# Altium footprint library L1.PcbLib: 20 footprints (part 1 of 2)
Each footprint in its own frame and in the unit in brackets; x right, y up, seen from the top. Pads: shape width x height; smd on the part's side, far side on the other; paste and mask are expansions set on the pad; w line width, h text height; cw(c..) or ccw(c..) is an arc to the next point about the centre after c.
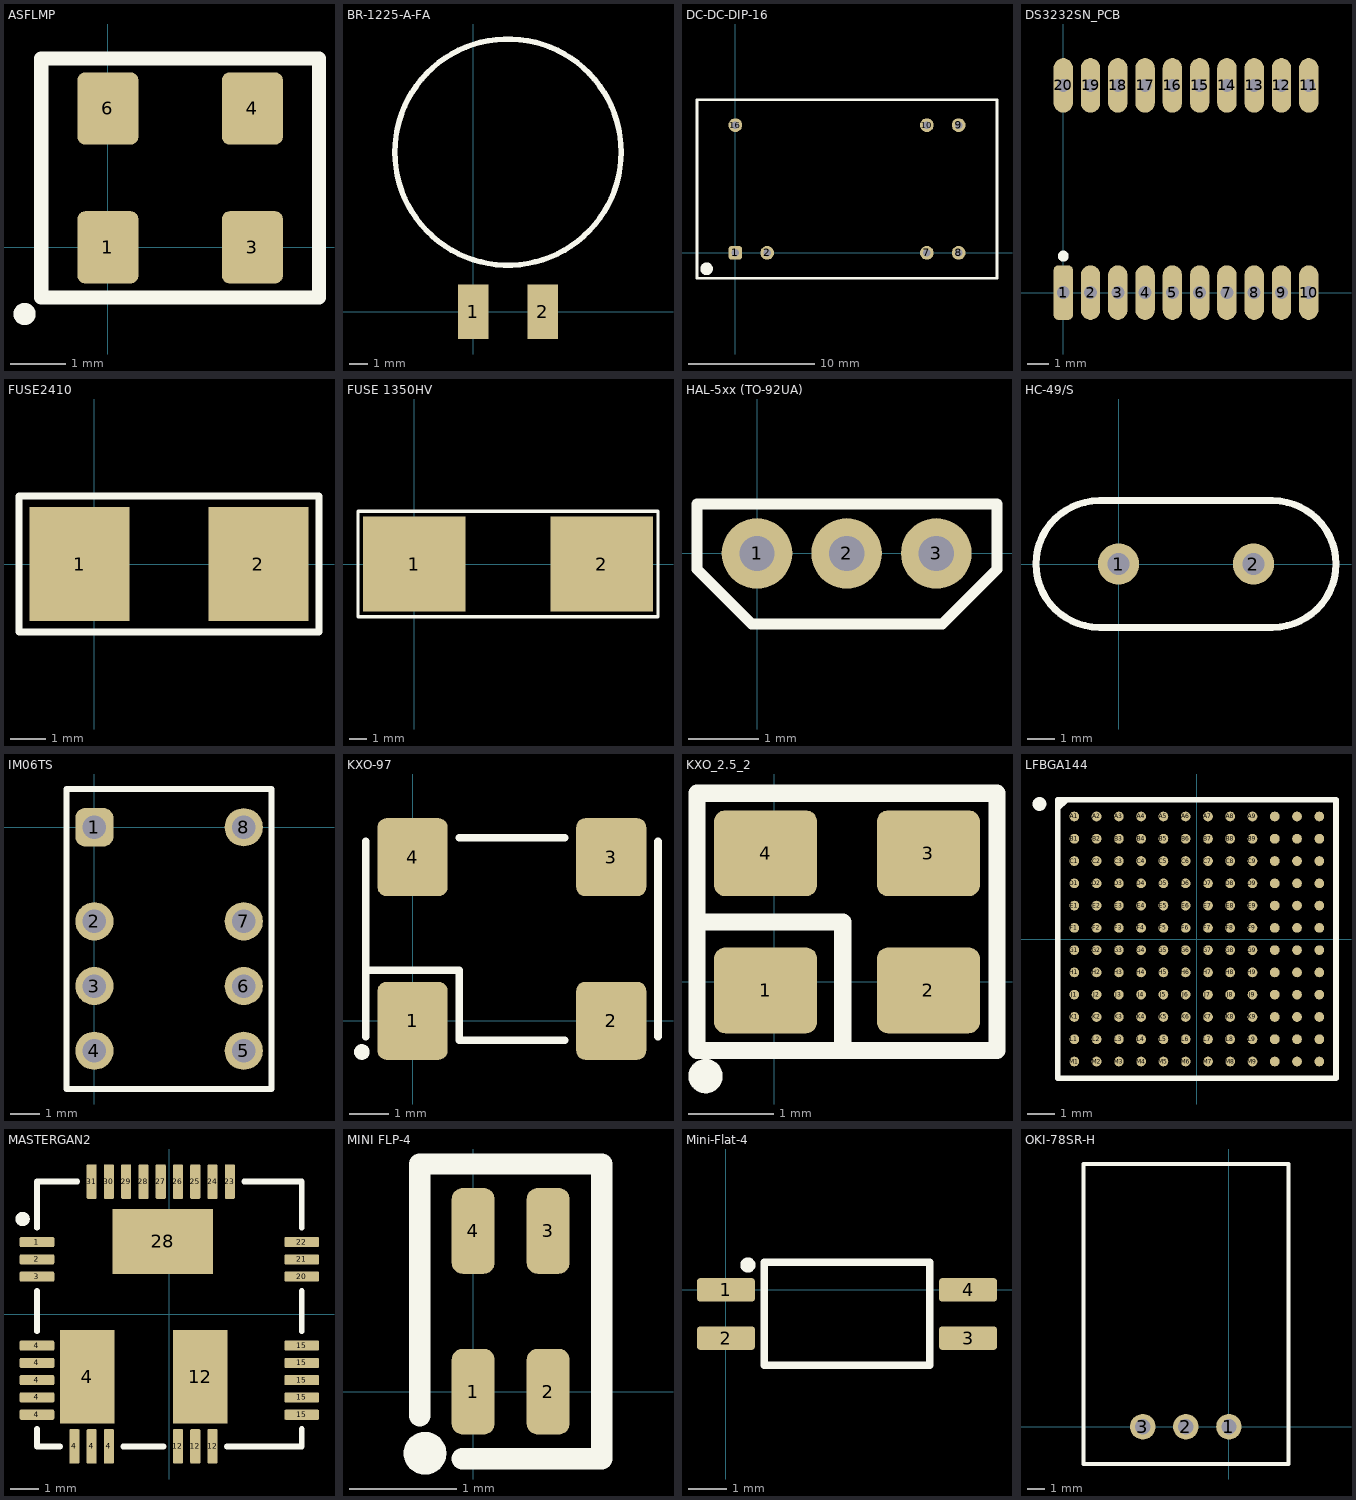
[diagram p0: the footprints below, top view; thin cyan lines are the x and y axes]

## ASFLMP [mm]
pads (4):
  rrect25% 1.1x1.3 smd: 1(0,0) 3(2.6,0) 4(2.6,2.5) 6(0,2.5)
Top Overlay:
  circle w0.2: c-1.5,-1.2 r0.1
  lines w0.254: -1.2,-0.9 3.8,-0.9 3.8,3.4 -1.2,3.4 -1.2,-0.9
Top Assembly:
  text ".Designator" at 6.112,0.73 h1

## BR-1225-A-FA [mm] "Battery"
pads (2):
  rect 1.7x3 smd: 1(0,0) 2(3.85,0)
Top Overlay:
  circle w0.3: c1.925,8.825 r6.25
Top Assembly:
  text ".Designator" at -3.098,8.667 h1
3D body "User Library-batteryBR1225AFAN.STEP": height 3.3, standoff 0.2, extent -4.35,-0.775 8.15,14.716

## DC-DC-DIP-16 [mm]
pads (7):
  rrect50% 1.1x1.1 hole 0.6: 1(0,0)
  round 1.1 hole 0.6: 2(2.54,0) 7(15.24,0) 8(17.78,0) 9(17.78,10.16) 10(15.24,10.16) 16(0,10.16)
Top Overlay:
  circle w0.5: c-2.286,-1.27 r0.254
  lines w0.2: -3.048,-2.032 20.828,-2.032 20.828,12.192 -3.048,12.192 -3.048,-2.032
Top Assembly:
  text ".Designator" at 4.002,5.167 h1
3D body "User Library-THL3-WI.STEP": height 8, standoff -3.6, extent -2.997,-1.778 20.803,11.922

## DS3232SN_PCB [mm]
pads (20):
  rrect50% 0.9x2.54 hole 0.6: 1(0,0)
  rrect100% 0.9x2.54 hole 0.6: 2(1.27,0) 3(2.54,0) 4(3.81,0) 5(5.08,0) 6(6.35,0) 7(7.62,0) 8(8.89,0) 9(10.16,0) 10(11.43,0) 11(11.43,9.65) 12(10.16,9.65) 13(8.89,9.65) 14(7.62,9.65) 15(6.35,9.65) 16(5.08,9.65) 17(3.81,9.65) 18(2.54,9.65) 19(1.27,9.65) 20(0,9.65)
Top Overlay:
  circle w0.254: c0,1.7 r0.127
Top Assembly:
  text ".Designator" at 0.702,4.567 h1

## FUSE2410 [mm]
pads (2):
  rect 2.8x3.2 smd: 1(-0.4,0) 2(4.6,0)
Top Overlay:
  lines w0.2: -2.1,-1.9 -2.1,1.9 6.3,1.9 6.3,-1.9 -2.1,-1.9
Top Assembly:
  text ".Designator" at -2.798,-0.333 h1
3D body "User Library-Fuse-2410.STEP": height 2.54, standoff 0, extent -0.95,-1.27 5.15,1.27

## FUSE 1350HV [mm]
pads (2):
  rect 6x5.6 smd: 1(0,0) 2(11,0)
Top Overlay:
  lines w0.2: -3.3,-3.1 -3.3,3.1 14.3,3.1 14.3,-3.1 -3.3,-3.1
Top Assembly:
  text ".Designator" at 0.502,-0.333 h1
3D body "1350HV.stp": height 5.1, standoff 0.03, extent -1,-2.535 12,2.535

## HAL-5xx (TO-92UA) [mm]
pads (3):
  round 1 hole 0.5: 1(0,0) 2(1.27,0) 3(2.54,0)
Top Overlay:
  lines w0.15: -0.85,-0.225 -0.075,-1 2.625,-1 3.4,-0.225 3.4,0.7 -0.85,0.7 -0.85,-0.225
Top Assembly:
  text ".Designator" at -3.723,-0.333 h1
3D body "SW3DPS-HALL SENSOR DIP-DEFAULT.STEP": height 4.7, standoff -1.95, extent -0.78,-0.925 3.32,0.575

## HC-49/S [mm]
pads (2):
  round 1.5 hole 0.8: 1(0,0) 2(4.9,0)
Top Overlay:
  lines w0.254: -0.7,-2.3 cw(c-0.7,0) -0.7,2.3 5.6,2.3 cw(c5.6,0) 5.6,-2.3 -0.7,-2.3
Top Assembly:
  text ".Designator" at -2.498,-0.333 h1
3D body "User Library-HC-49.STEP": height 3.55, standoff -2.95, extent -2.955,-2.255 7.845,2.245

## IM06TS [mm]
pads (8):
  rrect50% 1.3x1.3 hole 0.8: 1(0,0)
  round 1.3 hole 0.8: 2(0,-3.2) 3(0,-5.4) 4(0,-7.6) 5(5.08,-7.6) 6(5.08,-5.4) 7(5.08,-3.2) 8(5.08,0)
Top Overlay:
  lines w0.2: -0.95,-8.9 -0.95,1.3 6.025,1.3 6.025,-8.9 -0.95,-8.9
Top Assembly:
  text ".Designator" at 2.833,-8.898 h1
3D body "IM06.step": height 5.4, standoff -3.45, extent -0.465,-8.81 5.535,1.19

## KXO-97 [mm]
height 1.8
pads (4):
  rrect25% 1.8x2 smd: 1(0,0) 2(5.1,0) 3(5.1,4.2) 4(0,4.2)
Top Overlay:
  circle w0.2: c-1.3,-0.8 r0.1
  lines w0.2: -1.2,-0.4 -1.2,4.6 ; -1.2,1.3 1.2,1.3 1.2,-0.5 3.9,-0.5 ; 1.2,4.7 3.9,4.7 ; 6.3,-0.4 6.3,4.6
Top Assembly:
  text ".Designator" at -2.398,1.867 h1
3D body "User Library-KXO-97.STEP": height 1.8, standoff 0, extent -0.95,-0.43 6.05,4.65

## KXO_2.5_2 [mm]
pads (4):
  rrect25% 1.2x1 smd: 1(-0.1,-0.1) 2(1.8,-0.1) 3(1.8,1.5) 4(-0.1,1.5)
Top Overlay:
  circle w0.2: c-0.8,-1.1 r0.1
  lines w0.2: -0.9,0.7 0.8,0.7 0.8,-0.8 ; -0.9,-0.8 -0.9,2.2 2.6,2.2 2.6,-0.8 -0.9,-0.8
Top Assembly:
  text ".Designator" at -4.098,2.867 h1
3D body "User Library-KXO-V95.STEP": height 0.82, standoff 0, extent -0.4,-0.3 2.101,1.701

## LFBGA144 [mm] "BGA, 144-Leads, Body 10x10mm, Pitch 0.8mm"
height 1.4
pads (144):
  round 0.35 smd: A1(-4.4,4.4) A2(-3.6,4.4) A3(-2.8,4.4) A4(-2,4.4) A5(-1.2,4.4) A6(-0.4,4.4) A7(0.4,4.4) A8(1.2,4.4) A9(2,4.4) A10(2.8,4.4) A11(3.6,4.4) A12(4.4,4.4) B1(-4.4,3.6) B2(-3.6,3.6) B3(-2.8,3.6) B4(-2,3.6) B5(-1.2,3.6) B6(-0.4,3.6) B7(0.4,3.6) B8(1.2,3.6) B9(2,3.6) B10(2.8,3.6) B11(3.6,3.6) B12(4.4,3.6) C1(-4.4,2.8) C2(-3.6,2.8) C3(-2.8,2.8) C4(-2,2.8) C5(-1.2,2.8) C6(-0.4,2.8) C7(0.4,2.8) C8(1.2,2.8) C9(2,2.8) C10(2.8,2.8) C11(3.6,2.8) C12(4.4,2.8) D1(-4.4,2) D2(-3.6,2) D3(-2.8,2) D4(-2,2) D5(-1.2,2) D6(-0.4,2) D7(0.4,2) D8(1.2,2) D9(2,2) D10(2.8,2) D11(3.6,2) D12(4.4,2) E1(-4.4,1.2) E2(-3.6,1.2) E3(-2.8,1.2) E4(-2,1.2) E5(-1.2,1.2) E6(-0.4,1.2) E7(0.4,1.2) E8(1.2,1.2) E9(2,1.2) E10(2.8,1.2) E11(3.6,1.2) E12(4.4,1.2) F1(-4.4,0.4) F2(-3.6,0.4) F3(-2.8,0.4) F4(-2,0.4) F5(-1.2,0.4) F6(-0.4,0.4) F7(0.4,0.4) F8(1.2,0.4) F9(2,0.4) F10(2.8,0.4) F11(3.6,0.4) F12(4.4,0.4) G1(-4.4,-0.4) G2(-3.6,-0.4) G3(-2.8,-0.4) G4(-2,-0.4) G5(-1.2,-0.4) G6(-0.4,-0.4) G7(0.4,-0.4) G8(1.2,-0.4) G9(2,-0.4) G10(2.8,-0.4) G11(3.6,-0.4) G12(4.4,-0.4) H1(-4.4,-1.2) H2(-3.6,-1.2) H3(-2.8,-1.2) H4(-2,-1.2) H5(-1.2,-1.2) H6(-0.4,-1.2) H7(0.4,-1.2) H8(1.2,-1.2) H9(2,-1.2) H10(2.8,-1.2) H11(3.6,-1.2) H12(4.4,-1.2) J1(-4.4,-2) J2(-3.6,-2) J3(-2.8,-2) J4(-2,-2) J5(-1.2,-2) J6(-0.4,-2) J7(0.4,-2) J8(1.2,-2) J9(2,-2) J10(2.8,-2) J11(3.6,-2) J12(4.4,-2) K1(-4.4,-2.8) K2(-3.6,-2.8) K3(-2.8,-2.8) K4(-2,-2.8) K5(-1.2,-2.8) K6(-0.4,-2.8) K7(0.4,-2.8) K8(1.2,-2.8) K9(2,-2.8) K10(2.8,-2.8) K11(3.6,-2.8) K12(4.4,-2.8) L1(-4.4,-3.6) L2(-3.6,-3.6) L3(-2.8,-3.6) L4(-2,-3.6) L5(-1.2,-3.6) L6(-0.4,-3.6) L7(0.4,-3.6) L8(1.2,-3.6) L9(2,-3.6) L10(2.8,-3.6) L11(3.6,-3.6) L12(4.4,-3.6) M1(-4.4,-4.4) M2(-3.6,-4.4) M3(-2.8,-4.4) M4(-2,-4.4) M5(-1.2,-4.4) M6(-0.4,-4.4) M7(0.4,-4.4) M8(1.2,-4.4) M9(2,-4.4) M10(2.8,-4.4) M11(3.6,-4.4) M12(4.4,-4.4)
Top Overlay:
  circle w0.25: c-5.65,4.85 r0.125
  region: -4.684,5 -5,4.684 -5,5
  lines w0.2: -5,4.684 -4.684,5 ; -5,-5 -5,5 5,5 5,-5 -5,-5
Top Assembly:
  text ".Designator" at -4.998,-0.333 h1
3D body "User Library-BGA 144.STEP": height 1.2, standoff -0.05, extent -5,-5 5,5

## MASTERGAN2 [mm] "QFN 9 x 9 x 1 mm"
height 1
pads (34):
  rrect25% 1.2x0.35 smd paste-0.025 mask+0.07: 1(-4.6,2.5) 2(-4.6,1.9) 3(-4.6,1.3) 4(-4.6,-3.5) 4(-4.6,-2.9) 4(-4.6,-2.3) 4(-4.6,-1.7) 4(-4.6,-1.1) 15(4.6,-3.5) 15(4.6,-2.9) 15(4.6,-2.3) 15(4.6,-1.7) 15(4.6,-1.1) 20(4.6,1.3) 21(4.6,1.9) 22(4.6,2.5)
  rrect25% 0.35x1.2 smd paste-0.025 mask+0.07: 4(-3.3,-4.6) 4(-2.7,-4.6) 4(-2.1,-4.6) 12(0.3,-4.6) 12(0.9,-4.6) 12(1.5,-4.6) 23(2.1,4.6) 24(1.5,4.6) 25(0.9,4.6) 26(0.3,4.6) 27(-0.3,4.6) 28(-0.9,4.6) 29(-1.5,4.6) 30(-2.1,4.6) 31(-2.7,4.6)
  rect 1.9x3.25 smd paste-0.025 mask+0.07: 4(-2.85,-2.175) 12(1.075,-2.175)
  rect 3.5x2.26 smd paste-0.025 mask+0.07: 28(-0.225,2.525)
Top Overlay:
  circle w0.25: c-5.1,3.3 r0.125
  lines w0.2: -4.6,-4 -4.6,-4.6 -3.8,-4.6 ; -4.6,-0.6 -4.6,0.8 ; -4.6,3 -4.6,4.6 -3.2,4.6 ; -1.6,-4.6 -0.2,-4.6 ; 2,-4.6 4.6,-4.6 4.6,-4 ; 2.6,4.6 4.6,4.6 4.6,3 ; 4.6,-0.6 4.6,0.8
Top Paste:
  region: 0.15,-0.15 0.15,-1.35 1.35,-1.35 1.35,-0.15
  region: -0.15,-0.15 -1.35,-0.15 -1.35,-1.35 -0.15,-1.35
  region: -0.15,0.15 -0.15,1.35 -1.35,1.35 -1.35,0.15
  rectangle: 0.15,0.15 1.35,1.35
Top Assembly:
  text ".Designator" at -4.998,-0.333 h1
3D body: height 1, standoff 0, extent -4.5,-4.5 4.5,4.5

## MINI FLP-4 [mm]
height 0.5
pads (4):
  rrect50% 0.4x0.8 smd: 1(0,0) 2(0.7,0) 3(0.7,1.5) 4(0,1.5)
Top Overlay:
  circle w0.2: c-0.45,-0.575 r0.1
  lines w0.2: -0.5,-0.225 -0.5,2.125 1.2,2.125 1.2,-0.625 -0.1,-0.625
Top Assembly:
  text ".Designator" at -4.363,2.842 h1
3D body "User Library-MRUS74S Magnetic Switch.STEP": height 0.8, standoff 0, extent -0.4,-0.15 1.1,1.65

## Mini-Flat-4 [mm]
pads (4):
  rrect25% 1.52x0.61 smd: 1(0,0) 2(0,-1.27) 3(6.35,-1.27) 4(6.35,0)
Top Overlay:
  circle w0.2: c0.575,0.65 r0.1
  lines w0.2: 1,-1.975 1,0.725 5.35,0.725 5.35,-1.975 1,-1.975
Top Assembly:
  text ".Designator" at -1.823,-0.968 h1
3D body "MFP-4L.STEP": height 2.44, standoff -0.01, extent -0.175,-1.875 6.525,0.625

## OKI-78SR-H [mm]
pads (3):
  round 1.5 hole 0.9: 1(0,0) 2(-2.54,0) 3(-5.08,0)
Top Overlay:
  lines w0.254: -8.58,-2.2 -8.58,15.5 3.52,15.5 3.52,-2.2 -8.58,-2.2
Top Assembly:
  text ".Designator" at -7.498,6.167 h1
3D body "User Library-OKI-78SR_Oriz.STEP": height 8.18, standoff -4.2, extent -7.73,-1.3 2.67,15.2